# Altium footprint library 3-644456-3.PcbLib: 1 footprints
Each footprint in its own frame and in the unit in brackets; x right, y up, seen from the top. Pads: shape width x height; smd on the part's side, far side on the other; paste and mask are expansions set on the pad; w line width, h text height; cw(c..) or ccw(c..) is an arc to the next point about the centre after c.
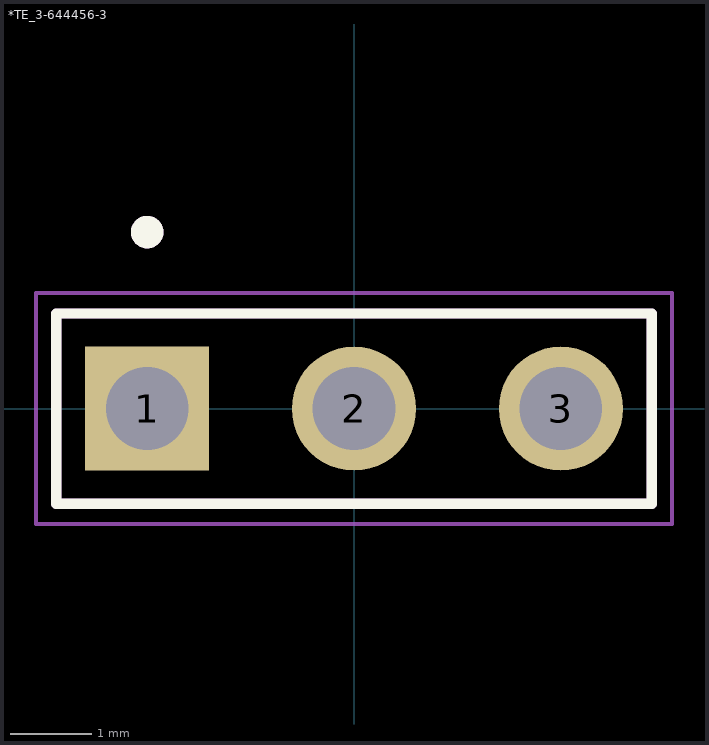
[diagram p0: the footprint, top view; thin cyan lines are the x and y axes]

## *TE_3-644456-3 [mil]
pads (3):
  rect 60x60 hole 40: 1(-100,0)
  round 60 hole 40: 2(0,0) 3(100,0)
Top Overlay:
  circle w7.87: c-100,85.35 r3.94
  lines w5: -143.98,-45.98 143.98,-45.98 143.98,45.98 -143.98,45.98 -143.98,-45.98
Mechanical 13:
  circle w7.87: c-100,85.35 r3.94
  circle w7.87: c-100,85.35 r3.94
  lines w5: -143.98,-45.98 143.98,-45.98 ; -143.98,-45.98 -143.98,45.98 ; -143.98,-45.98 143.98,-45.98 ; -143.98,-45.98 -143.98,45.98 ; -143.98,45.98 143.98,45.98 ; -143.98,45.98 143.98,45.98 ; 143.98,-45.98 143.98,45.98 ; 143.98,-45.98 143.98,45.98
Mechanical 15:
  lines w1.97: -153.82,-55.83 153.82,-55.83 153.82,55.83 -153.82,55.83 -153.82,-55.83